# EAGLE library part XC95288XL (library be_xilinx)
edited: Mario Blunk
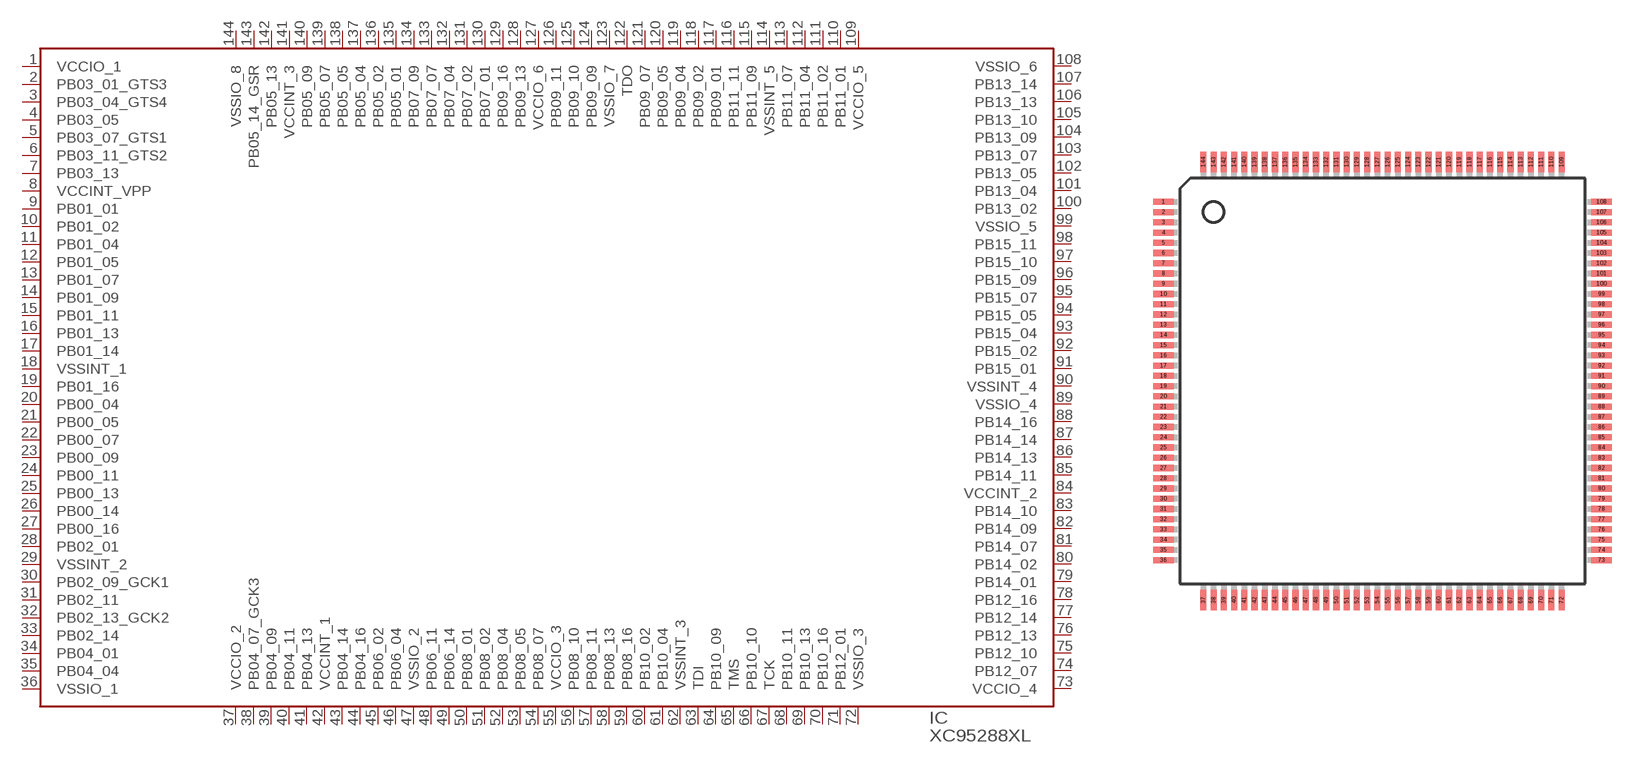
[diagram p0: symbol with the pads of S_TQFP144; footprint S_TQFP144]

Designator prefix IC

## XC95288XL-TQG144 (BOM: YES; COMMISSIONED: 2014-10-13; PART_CODE_BEL: IC_PAC_S_TQFP144_VAL_XC95288XL-xTQ144x)  [S_TQFP144]
1  VCCIO_1  pwr
2  PB03_01_GTS3
3  PB03_04_GTS4
4  PB03_05
5  PB03_07_GTS1
6  PB03_11_GTS2
7  PB03_13
8  VCCINT_VPP  pwr
9  PB01_01
10  PB01_02
11  PB01_04
12  PB01_05
13  PB01_07
14  PB01_09
15  PB01_11
16  PB01_13
17  PB01_14
18  VSSINT_1  pwr
19  PB01_16
20  PB00_04
21  PB00_05
22  PB00_07
23  PB00_09
24  PB00_11
25  PB00_13
26  PB00_14
27  PB00_16
28  PB02_01
29  VSSINT_2  pwr
30  PB02_09_GCK1
31  PB02_11
32  PB02_13_GCK2
33  PB02_14
34  PB04_01
35  PB04_04
36  VSSIO_1  pwr
37  VCCIO_2  pwr
38  PB04_07_GCK3
39  PB04_09
40  PB04_11
41  PB04_13
42  VCCINT_1  pwr
43  PB04_14
44  PB04_16
45  PB06_02
46  PB06_04
47  VSSIO_2  pwr
48  PB06_11
49  PB06_14
50  PB08_01
51  PB08_02
52  PB08_04
53  PB08_05
54  PB08_07
55  VCCIO_3  pas
56  PB08_10
57  PB08_11
58  PB08_13
59  PB08_16
60  PB10_02
61  PB10_04
62  VSSINT_3  pwr
63  TDI  in
64  PB10_09
65  TMS  in
66  PB10_10
67  TCK  in
68  PB10_11
69  PB10_13
70  PB10_16
71  PB12_01
72  VSSIO_3  pwr
73  VCCIO_4  pwr
74  PB12_07
75  PB12_10
76  PB12_13
77  PB12_14
78  PB12_16
79  PB14_01
80  PB14_02
81  PB14_07
82  PB14_09
83  PB14_10
84  VCCINT_2  pwr
85  PB14_11
86  PB14_13
87  PB14_14
88  PB14_16
89  VSSIO_4  pwr
90  VSSINT_4  pwr
91  PB15_01
92  PB15_02
93  PB15_04
94  PB15_05
95  PB15_07
96  PB15_09
97  PB15_10
98  PB15_11
99  VSSIO_5  pwr
100  PB13_02
101  PB13_04
102  PB13_05
103  PB13_07
104  PB13_09
105  PB13_10
106  PB13_13
107  PB13_14
108  VSSIO_6  pwr
109  VCCIO_5  pwr
110  PB11_01
111  PB11_02
112  PB11_04
113  PB11_07
114  VSSINT_5  pwr
115  PB11_09
116  PB11_11
117  PB09_01
118  PB09_02
119  PB09_04
120  PB09_05
121  PB09_07
122  TDO  out
123  VSSIO_7  pwr
124  PB09_09
125  PB09_10
126  PB09_11
127  VCCIO_6  pwr
128  PB09_13
129  PB09_16
130  PB07_01
131  PB07_02
132  PB07_04
133  PB07_07
134  PB07_09
135  PB05_01
136  PB05_02
137  PB05_04
138  PB05_05
139  PB05_07
140  PB05_09
141  VCCINT_3  pwr
142  PB05_13
143  PB05_14_GSR
144  VSSIO_8  pwr

## Footprint S_TQFP144 (pad centres in mm)
edited: Mario Blunk date: 2014-10-13
smd 1 x 0.3: 1 -10.7,8.75; 2 -10.7,8.25; 3 -10.7,7.75; 4 -10.7,7.25; 5 -10.7,6.75; 6 -10.7,6.25; 7 -10.7,5.75; 8 -10.7,5.25; 9 -10.7,4.75; 10 -10.7,4.25; 11 -10.7,3.75; 12 -10.7,3.25; 13 -10.7,2.75; 14 -10.7,2.25; 15 -10.7,1.75; 16 -10.7,1.25; 17 -10.7,0.75; 18 -10.7,0.25; 19 -10.7,-0.25; 20 -10.7,-0.75; 21 -10.7,-1.25; 22 -10.7,-1.75; 23 -10.7,-2.25; 24 -10.7,-2.75; 25 -10.7,-3.25; 26 -10.7,-3.75; 27 -10.7,-4.25; 28 -10.7,-4.75; 29 -10.7,-5.25; 30 -10.7,-5.75; 31 -10.7,-6.25; 32 -10.7,-6.75; 33 -10.7,-7.25; 34 -10.7,-7.75; 35 -10.7,-8.25; 36 -10.7,-8.75; 73 10.7,-8.75; 74 10.7,-8.25; 75 10.7,-7.75; 76 10.7,-7.25; 77 10.7,-6.75; 78 10.7,-6.25; 79 10.7,-5.75; 80 10.7,-5.25; 81 10.7,-4.75; 82 10.7,-4.25; 83 10.7,-3.75; 84 10.7,-3.25; 85 10.7,-2.75; 86 10.7,-2.25; 87 10.7,-1.75; 88 10.7,-1.25; 89 10.7,-0.75; 90 10.7,-0.25; 91 10.7,0.25; 92 10.7,0.75; 93 10.7,1.25; 94 10.7,1.75; 95 10.7,2.25; 96 10.7,2.75; 97 10.7,3.25; 98 10.7,3.75; 99 10.7,4.25; 100 10.7,4.75; 101 10.7,5.25; 102 10.7,5.75; 103 10.7,6.25; 104 10.7,6.75; 105 10.7,7.25; 106 10.7,7.75; 107 10.7,8.25; 108 10.7,8.75
smd 0.3 x 1: 37 -8.75,-10.7; 38 -8.25,-10.7; 39 -7.75,-10.7; 40 -7.25,-10.7; 41 -6.75,-10.7; 42 -6.25,-10.7; 43 -5.75,-10.7; 44 -5.25,-10.7; 45 -4.75,-10.7; 46 -4.25,-10.7; 47 -3.75,-10.7; 48 -3.25,-10.7; 49 -2.75,-10.7; 50 -2.25,-10.7; 51 -1.75,-10.7; 52 -1.25,-10.7; 53 -0.75,-10.7; 54 -0.25,-10.7; 55 0.25,-10.7; 56 0.75,-10.7; 57 1.25,-10.7; 58 1.75,-10.7; 59 2.25,-10.7; 60 2.75,-10.7; 61 3.25,-10.7; 62 3.75,-10.7; 63 4.25,-10.7; 64 4.75,-10.7; 65 5.25,-10.7; 66 5.75,-10.7; 67 6.25,-10.7; 68 6.75,-10.7; 69 7.25,-10.7; 70 7.75,-10.7; 71 8.25,-10.7; 72 8.75,-10.7; 109 8.75,10.7; 110 8.25,10.7; 111 7.75,10.7; 112 7.25,10.7; 113 6.75,10.7; 114 6.25,10.7; 115 5.75,10.7; 116 5.25,10.7; 117 4.75,10.7; 118 4.25,10.7; 119 3.75,10.7; 120 3.25,10.7; 121 2.75,10.7; 122 2.25,10.7; 123 1.75,10.7; 124 1.25,10.7; 125 0.75,10.7; 126 0.25,10.7; 127 -0.25,10.7; 128 -0.75,10.7; 129 -1.25,10.7; 130 -1.75,10.7; 131 -2.25,10.7; 132 -2.75,10.7; 133 -3.25,10.7; 134 -3.75,10.7; 135 -4.25,10.7; 136 -4.75,10.7; 137 -5.25,10.7; 138 -5.75,10.7; 139 -6.25,10.7; 140 -6.75,10.7; 141 -7.25,10.7; 142 -7.75,10.7; 143 -8.25,10.7; 144 -8.75,10.7